# Altium footprint library fydp.PcbLib: 10 footprints
Each footprint in its own frame and in the unit in brackets; x right, y up, seen from the top. Pads: shape width x height; smd on the part's side, far side on the other; paste and mask are expansions set on the pad; w line width, h text height; cw(c..) or ccw(c..) is an arc to the next point about the centre after c.
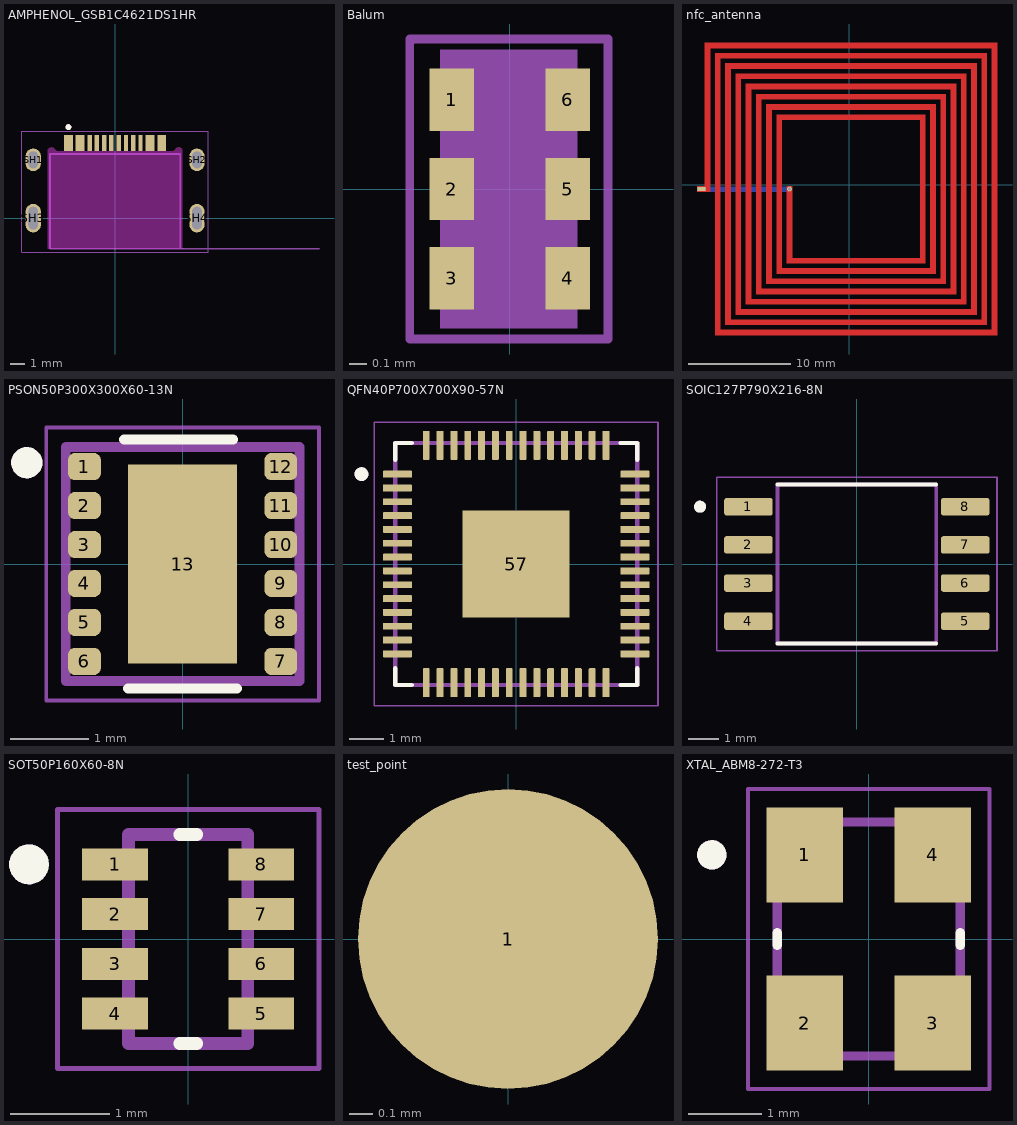
[diagram p0: the footprints below, top view; thin cyan lines are the x and y axes]

## AMPHENOL_GSB1C4621DS1HR [mm]
height 2.16
pads (16):
  rect 0.6x1.1 smd mask+0.05: A1_B12(-3.2,5.15) A4_B9(-2.4,5.15) B1_A12(3.2,5.15) B4_A9(2.4,5.15)
  rect 0.3x1.1 smd mask+0.05: A5(-1.25,5.15) A6(-0.25,5.15) A7(0.25,5.15) A8(1.25,5.15) B5(1.75,5.15) B6(0.75,5.15) B7(-0.75,5.15) B8(-1.75,5.15)
  oval 1.05x1.55 hole 0.65 slot 1.15 at 90 deg: SH1(-5.62,4) SH2(5.62,4)
  oval 1.05x1.95 hole 0.65 slot 1.55 at 90 deg: SH3(-5.62,0) SH4(5.62,0)
Top Overlay:
  circle w0.2: c-3.2,6.25 r0.1
Keep-Out Layer:
  board cut-out: -4.619,4.622 -4.62,4.6 -4.62,-2.1 4.62,-2.1 4.62,4.6 4.619,4.622 4.616,4.643 4.611,4.665 4.605,4.686 4.597,4.706 4.587,4.725 4.575,4.743 4.562,4.761 4.547,4.777 4.531,4.792 4.513,4.805 4.495,4.817 4.476,4.827 4.456,4.835 4.435,4.841 4.413,4.846 4.392,4.849 4.37,4.85 4.348,4.849 4.327,4.846 4.305,4.841 4.284,4.835 4.264,4.827 4.245,4.817 4.227,4.805 4.209,4.792 4.193,4.777 4.178,4.761 4.165,4.743 4.154,4.725 4.149,4.718 4.144,4.71 4.139,4.703 4.134,4.696 4.129,4.689 4.123,4.683 4.117,4.676 4.111,4.67 4.104,4.664 4.098,4.658 4.091,4.653 4.084,4.648 4.077,4.643 4.069,4.638 4.062,4.633 4.054,4.629 4.047,4.625 4.039,4.622 4.031,4.618 4.022,4.615 4.014,4.612 4.006,4.61 3.997,4.607 3.989,4.605 3.98,4.604 3.972,4.602 3.963,4.601 3.954,4.601 3.946,4.6 3.937,4.6 -3.937,4.6 -3.946,4.6 -3.954,4.601 -3.963,4.601 -3.972,4.602 -3.98,4.604 -3.989,4.605 -3.997,4.607 -4.006,4.61 -4.014,4.612 -4.022,4.615 -4.031,4.618 -4.039,4.622 -4.047,4.625 -4.054,4.629 -4.062,4.633 -4.069,4.638 -4.077,4.643 -4.084,4.648 -4.091,4.653 -4.098,4.658 -4.104,4.664 -4.111,4.67 -4.117,4.676 -4.123,4.683 -4.129,4.689 -4.134,4.696 -4.139,4.703 -4.144,4.71 -4.149,4.718 -4.154,4.725 -4.165,4.743 -4.178,4.761 -4.193,4.777 -4.209,4.792 -4.227,4.805 -4.245,4.817 -4.264,4.827 -4.284,4.835 -4.305,4.841 -4.327,4.846 -4.348,4.849 -4.37,4.85 -4.392,4.849 -4.413,4.846 -4.435,4.841 -4.456,4.835 -4.476,4.827 -4.495,4.817 -4.513,4.805 -4.531,4.792 -4.547,4.777 -4.562,4.761 -4.575,4.743 -4.587,4.725 -4.597,4.706 -4.605,4.686 -4.611,4.665 -4.616,4.643
Mechanical 13:
  circle w0.2: c-3.2,6.25 r0.1
  lines w0.127: 14,-2.1 4.47,-2.1 ; 4.47,-2.1 -4.47,-2.1 -4.47,4.4 4.47,4.4 4.47,-2.1
  text "PCB EDGE" at 6.5,-2 h1.02
Mechanical 15:
  lines w0.05: -6.395,-2.35 -6.395,5.95 6.395,5.95 6.395,-2.35 -6.395,-2.35
3D body "step_temp.STEP": height 1.58, standoff -1.61, extent -5.77,-2.1 5.77,5.1

## Balum [mm]
pads (6):
  rect 0.25x0.35 smd mask+0.05: 1(-0.325,0.5) 2(-0.325,0) 3(-0.325,-0.5) 4(0.325,-0.5) 5(0.325,0) 6(0.325,0.5)
Mechanical 13:
  rectangle: -0.39,-0.78 0.38,0.78
Mechanical 15:
  lines w0.05: -0.55,0.83 ccw(c-0.56,0.83) -0.56,0.84 ; -0.56,0.84 -0.56,-0.84 0.55,-0.84 0.55,0.84 -0.56,0.84

## nfc_antenna [mm]
pads (2):
  rect 0.762x0.381 smd far side: 1(-14.45,-0.4)
  rect 0.762x0.381 smd: 1(-14.45,-0.4)
via -5.85,-0.4 diameter 0.508 hole 0.305
Top Layer:
  region: 14.399,-14.649 -13.099,-14.649 -13.099,12.85 13.399,12.85 13.399,-13.649 -12.099,-13.649 -12.099,11.85 12.399,11.85 12.399,-12.649 -11.099,-12.649 -11.099,10.85 11.399,10.85 11.399,-11.649 -10.099,-11.649 -10.099,9.85 10.399,9.85 10.399,-10.649 -9.099,-10.649 -9.099,8.85 9.399,8.85 9.399,-9.649 -8.099,-9.649 -8.099,7.85 8.399,7.85 8.399,-8.649 -7.099,-8.649 -7.099,6.85 7.399,6.85 7.399,-7.649 -6.099,-7.649 -6.099,-0.15 -5.601,-0.15 -5.601,-7.149 -5.6,-7.15 6.9,-7.15 6.901,-7.149 6.901,6.351 6.9,6.351 -6.6,6.351 -6.601,6.351 -6.601,-8.149 -6.6,-8.15 7.9,-8.15 7.901,-8.149 7.901,7.351 7.9,7.351 -7.6,7.351 -7.601,7.351 -7.601,-9.149 -7.6,-9.15 8.9,-9.15 8.901,-9.149 8.901,8.351 8.9,8.351 -8.6,8.351 -8.601,8.351 -8.601,-10.149 -8.6,-10.15 9.9,-10.15 9.901,-10.149 9.901,9.351 9.9,9.351 -9.6,9.351 -9.601,9.351 -9.601,-11.149 -9.6,-11.15 10.9,-11.15 10.901,-11.149 10.901,10.351 10.9,10.351 -10.6,10.351 -10.601,10.351 -10.601,-12.149 -10.6,-12.15 11.9,-12.15 11.901,-12.149 11.901,11.351 11.9,11.351 -11.6,11.351 -11.601,11.351 -11.601,-13.149 -11.6,-13.15 12.9,-13.15 12.901,-13.149 12.901,12.351 12.9,12.351 -12.6,12.351 -12.601,12.351 -12.601,-14.149 -12.6,-14.15 13.9,-14.15 13.901,-14.149 13.901,13.351 13.9,13.351 -13.6,13.351 -13.601,13.351 -13.601,-0.649 -14.849,-0.649 -14.849,-0.15 -14.1,-0.15 -14.099,-0.149 -14.099,13.85 14.399,13.85
Bottom Layer:
  rectangle: -14.875,-0.675 -5.6,-0.15

## PCBComponent_1 [mm]

## PSON50P300X300X60-13N [mm]
height 0.6
pads (13):
  rrect50% 0.42x0.35 smd: 1(-1.26,1.25) 2(-1.26,0.75) 3(-1.26,0.25) 4(-1.26,-0.25) 5(-1.26,-0.75) 6(-1.26,-1.25) 7(1.26,-1.25) 8(1.26,-0.75) 9(1.26,-0.25) 10(1.26,0.25) 11(1.26,0.75) 12(1.26,1.25)
  rect 1.4x2.55 smd paste-2: 13(0,0)
Top Overlay:
  circle w0.2: c-2,1.3 r0.1
  lines w0.127: -0.75,1.6 0.65,1.6 ; -0.7,-1.6 0.7,-1.6
Top Paste:
  region: 0.44,0.085 -0.44,0.085 -0.44,1.105 0.44,1.105
  region: 0.44,-1.105 -0.44,-1.105 -0.44,-0.085 0.44,-0.085
Mechanical 13:
  circle w0.2: c-2,1.3 r0.1
  lines w0.127: -1.5,-1.5 1.5,-1.5 1.5,1.5 -1.5,1.5 -1.5,-1.5
Mechanical 15:
  lines w0.05: -1.75,-1.75 1.75,-1.75 1.75,1.75 -1.75,1.75 -1.75,-1.75
3D body "step_temp.STEP": height 0.6, standoff 0, extent -1.512,-1.512 1.512,1.512

## QFN40P700X700X90-57N [mm]
height 0.9
pads (57):
  rrect25% 0.84x0.2 smd: 1(-3.435,2.6) 2(-3.435,2.2) 3(-3.435,1.8) 4(-3.435,1.4) 5(-3.435,1) 6(-3.435,0.6) 7(-3.435,0.2) 8(-3.435,-0.2) 9(-3.435,-0.6) 10(-3.435,-1) 11(-3.435,-1.4) 12(-3.435,-1.8) 13(-3.435,-2.2) 14(-3.435,-2.6) 29(3.435,-2.6) 30(3.435,-2.2) 31(3.435,-1.8) 32(3.435,-1.4) 33(3.435,-1) 34(3.435,-0.6) 35(3.435,-0.2) 36(3.435,0.2) 37(3.435,0.6) 38(3.435,1) 39(3.435,1.4) 40(3.435,1.8) 41(3.435,2.2) 42(3.435,2.6)
  rrect25% 0.2x0.84 smd: 15(-2.6,-3.435) 16(-2.2,-3.435) 17(-1.8,-3.435) 18(-1.4,-3.435) 19(-1,-3.435) 20(-0.6,-3.435) 21(-0.2,-3.435) 22(0.2,-3.435) 23(0.6,-3.435) 24(1,-3.435) 25(1.4,-3.435) 26(1.8,-3.435) 27(2.2,-3.435) 28(2.6,-3.435) 43(2.6,3.435) 44(2.2,3.435) 45(1.8,3.435) 46(1.4,3.435) 47(1,3.435) 48(0.6,3.435) 49(0.2,3.435) 50(-0.2,3.435) 51(-0.6,3.435) 52(-1,3.435) 53(-1.4,3.435) 54(-1.8,3.435) 55(-2.2,3.435) 56(-2.6,3.435)
  rect 3.1x3.1 smd paste-0.57: 57(0,0)
Top Overlay:
  circle w0.2: c-4.475,2.6 r0.1
  lines w0.127: -3.5,-3.02 -3.5,-3.5 -3.02,-3.5 ; -3.5,3.02 -3.5,3.5 -3.02,3.5 ; 3.02,-3.5 3.5,-3.5 3.5,-3.02 ; 3.02,3.5 3.5,3.5 3.5,3.02
Mechanical 13:
  circle w0.2: c-4.475,2.6 r0.1
  lines w0.127: -3.5,-3.5 -3.5,3.5 3.5,3.5 3.5,-3.5 -3.5,-3.5
Mechanical 15:
  lines w0.05: -4.105,-4.105 -4.105,4.105 4.105,4.105 4.105,-4.105 -4.105,-4.105
3D body "step_temp.STEP": height 0.9, standoff 0, extent -3.5,-3.5 3.5,3.5

## SOIC127P790X216-8N [mm]
height 2.16
pads (8):
  rrect25% 1.61x0.58 smd: 1(-3.605,1.905) 2(-3.605,0.635) 3(-3.605,-0.635) 4(-3.605,-1.905) 5(3.605,-1.905) 6(3.605,-0.635) 7(3.605,0.635) 8(3.605,1.905)
Top Overlay:
  circle w0.2: c-5.215,1.905 r0.1
  lines w0.127: -2.64,-2.64 2.64,-2.64 ; -2.64,2.64 2.64,2.64
Mechanical 13:
  circle w0.2: c-5.215,1.905 r0.1
  lines w0.127: -2.64,-2.64 -2.64,2.64 2.64,2.64 2.64,-2.64 -2.64,-2.64
Mechanical 15:
  lines w0.05: -4.66,-2.89 -4.66,2.89 4.66,2.89 4.66,-2.89 -4.66,-2.89
3D body "step_temp.STEP": height 2.16, standoff 0, extent -3.95,-2.64 3.95,2.64

## SOT50P160X60-8N [mm]
height 0.6
pads (8):
  rect 0.66x0.32 smd mask+0.05: 1(-0.735,0.75) 2(-0.735,0.25) 3(-0.735,-0.25) 4(-0.735,-0.75) 5(0.735,-0.75) 6(0.735,-0.25) 7(0.735,0.25) 8(0.735,0.75)
Top Overlay:
  circle w0.2: c-1.6,0.75 r0.1
  lines w0.127: -0.085,-1.05 0.085,-1.05 ; -0.085,1.05 0.085,1.05
Mechanical 13:
  circle w0.2: c-1.6,0.75 r0.1
  lines w0.127: -0.6,-1.05 0.6,-1.05 0.6,1.05 -0.6,1.05 -0.6,-1.05
Mechanical 15:
  lines w0.05: -1.315,-1.3 1.315,-1.3 1.315,1.3 -1.315,1.3 -1.315,-1.3
3D body "step_temp.STEP": height 0.6, standoff 0, extent -0.8,-1.05 0.8,1.05

## test_point [mm]
pads (1):
  round 1.27 smd: 1(0,0)

## XTAL_ABM8-272-T3 [mm]
height 0.8
pads (4):
  rect 1.05x1.3 smd: 1(-0.875,1.15) 2(-0.875,-1.15) 3(0.875,-1.15) 4(0.875,1.15)
Top Overlay:
  circle w0.2: c-2.145,1.15 r0.1
  lines w0.127: -1.25,-0.085 -1.25,0.085 ; 1.25,-0.085 1.25,0.085
Mechanical 13:
  circle w0.2: c-2.145,1.15 r0.1
  lines w0.127: -1.25,-1.6 1.25,-1.6 1.25,1.6 -1.25,1.6 -1.25,-1.6
Mechanical 15:
  lines w0.05: -1.65,-2.05 1.65,-2.05 1.65,2.05 -1.65,2.05 -1.65,-2.05
3D body "step_temp.STEP": height 0.7, standoff 0, extent -1.25,-1.6 1.25,1.6